# Altium footprint library LPON_IC.PcbLib: 50 footprints (part 2 of 4)
Each footprint in its own frame and in the unit in brackets; x right, y up, seen from the top. Pads: shape width x height; smd on the part's side, far side on the other; paste and mask are expansions set on the pad; w line width, h text height; cw(c..) or ccw(c..) is an arc to the next point about the centre after c.
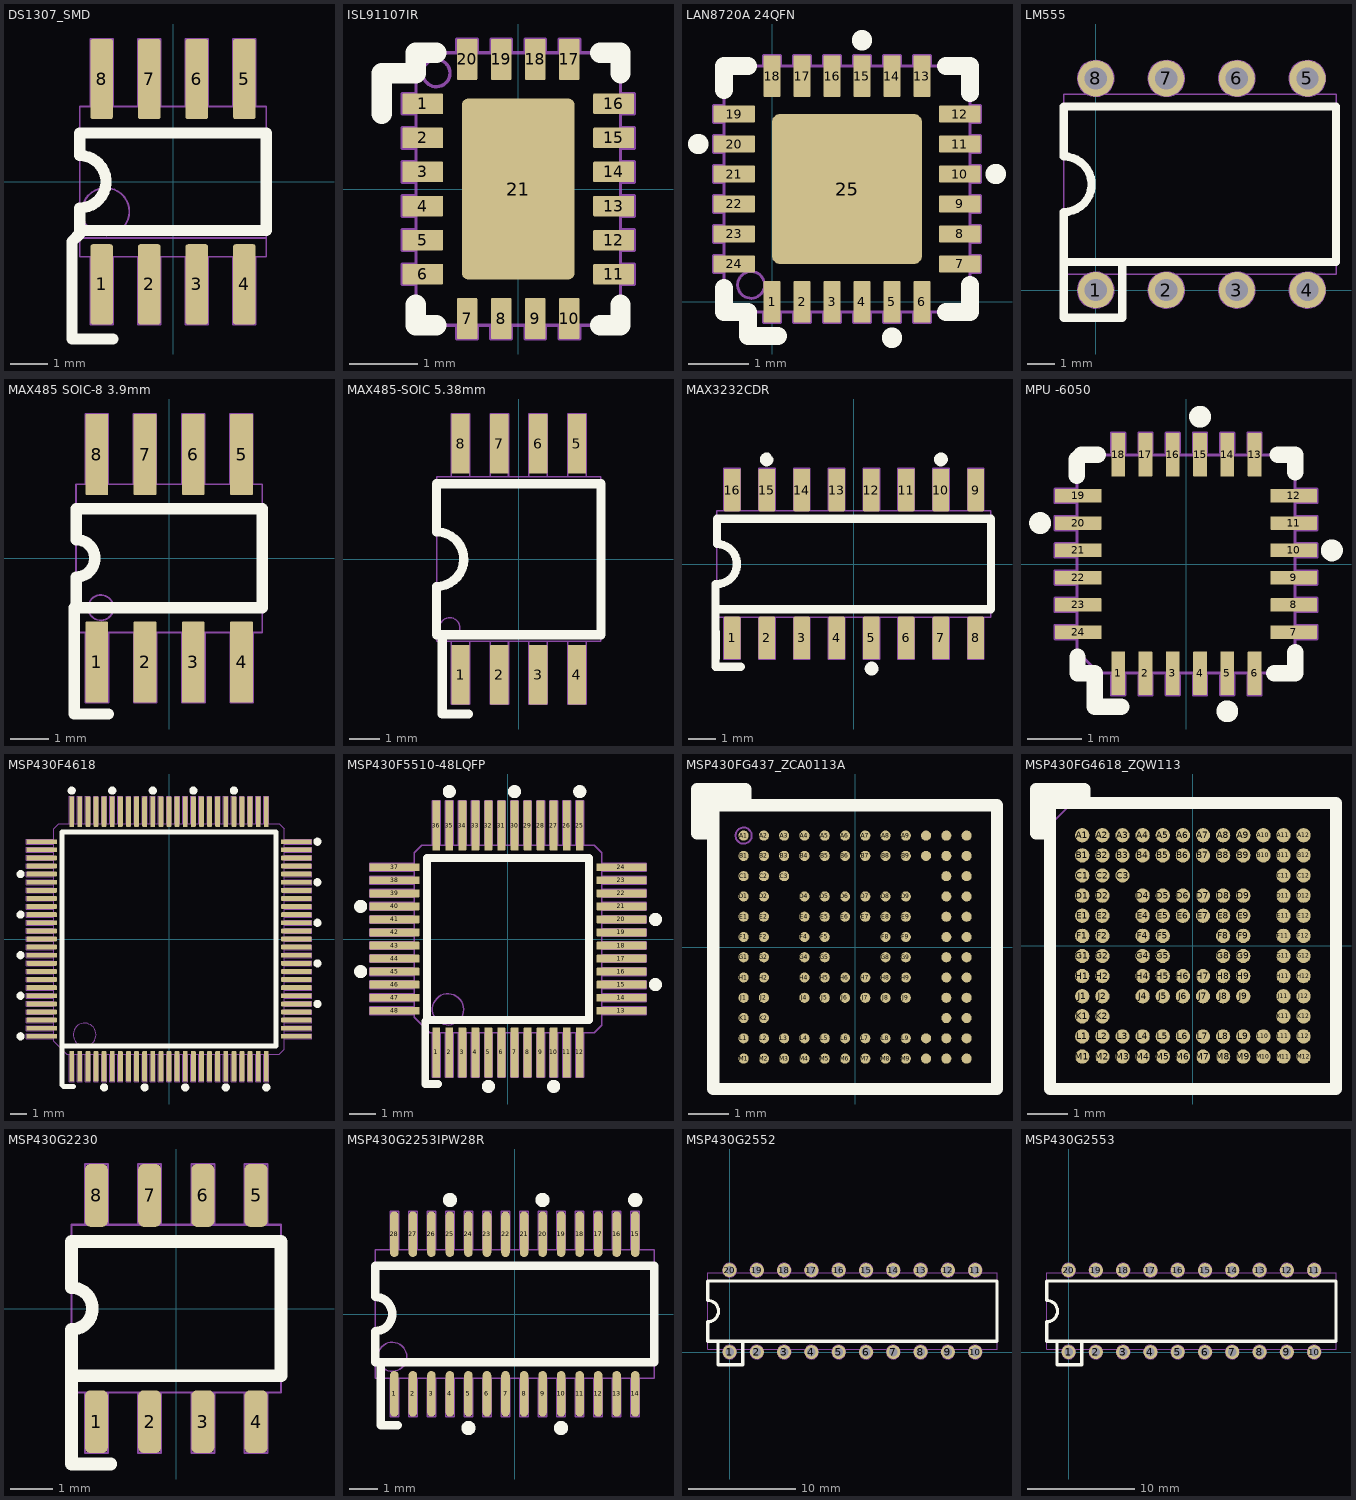
[diagram p1: the footprints below, top view; thin cyan lines are the x and y axes]

## DS1307_SMD [mm] "SOIC8, 8 PIN, Pin to pin 1.27MM"
height 1.75
pads (8):
  rrect20% 0.6x2.14 smd mask+0.1: 1(-1.905,-2.74) 2(-0.635,-2.74) 3(0.635,-2.74) 4(1.905,-2.74) 5(1.905,2.74) 6(0.635,2.74) 7(-0.635,2.74) 8(-1.905,2.74)
Top Overlay:
  lines w0.3: -1.6,-4.2 -2.7,-4.2 -2.7,-1.6 -2.49,-1.39 -2.49,-1.3 ; -2.49,-1.3 -2.49,-0.7 ccw(c-2.49,0) -2.49,0.7 -2.49,1.3 2.49,1.3 2.49,-1.3 -2.49,-1.3
ASSY-C:
  circle w0.05: c-1.8,-0.8 r0.632
  lines w0.05: -2.49,-1.5 2.49,-1.5 ; -2.49,-2.005 -2.49,2.005 2.49,2.005 2.49,-2.005 -2.49,-2.005 ; -2.205,-3.81 -1.605,-3.81 -1.605,-2.005 -2.205,-2.005 -2.205,-3.81 ; -2.205,2.005 -2.205,3.81 -1.605,3.81 -1.605,2.005 -2.205,2.005 ; -0.935,-3.81 -0.935,-2.005 -0.335,-2.005 -0.335,-3.81 -0.935,-3.81 ; -0.935,2.005 -0.935,3.81 -0.335,3.81 -0.335,2.005 -0.935,2.005 ; 0.335,-3.81 0.335,-2.005 0.935,-2.005 0.935,-3.81 0.335,-3.81 ; 0.335,2.005 0.335,3.81 0.935,3.81 0.935,2.005 0.335,2.005 ; 1.605,-3.81 1.605,-2.005 2.205,-2.005 2.205,-3.81 1.605,-3.81 ; 1.605,2.005 1.605,3.81 2.205,3.81 2.205,2.005 1.605,2.005
  text "4" at 1.7,-1.3 h0.8
  text "5" at 1.7,0.9 h0.8
  text "8" at -2.2,0.9 h0.8
3D body "User Library-SOIC127P610X343-8N.STEP": height 3.48, standoff 0, extent -2.92,-3 2.92,3

## ISL91107IR [mm] "20LD TQFN, a highly-integrated buck-boost switching  regulator"
height 0.8
pads (21):
  rrect10% 0.6x0.3 smd mask+0.05: 1(-1.4,1.25) 2(-1.4,0.75) 3(-1.4,0.25) 4(-1.4,-0.25) 5(-1.4,-0.75) 6(-1.4,-1.25) 11(1.4,-1.25) 12(1.4,-0.75) 13(1.4,-0.25) 14(1.4,0.25) 15(1.4,0.75) 16(1.4,1.25)
  rrect10% 0.3x0.6 smd mask+0.05: 7(-0.75,-1.9) 8(-0.25,-1.9) 9(0.25,-1.9) 10(0.75,-1.9) 17(0.75,1.9) 18(0.25,1.9) 19(-0.25,1.9) 20(-0.75,1.9)
  rrect10% 1.65x2.65 smd mask+0: 21(0,0)
Top Overlay:
  lines w0.3: -2,1.1 -2,1.7 -1.5,1.7 -1.5,2 -1.2,2 ; -1.5,-1.7 -1.5,-2 -1.2,-2 ; 1.2,-2 1.5,-2 1.5,-1.7 ; 1.2,2 1.5,2 1.5,1.7
ASSY-C:
  circle w0.05: c-1.2,1.7 r0.2
  lines w0.05: -1.5,-1.4 -1.7,-1.4 -1.7,-1.1 -1.5,-1.1 ; -1.5,-0.9 -1.7,-0.9 -1.7,-0.6 -1.5,-0.6 ; -1.5,-0.4 -1.7,-0.4 -1.7,-0.1 -1.5,-0.1 ; -1.5,0.1 -1.7,0.1 -1.7,0.4 -1.5,0.4 ; -1.5,0.6 -1.7,0.6 -1.7,0.9 -1.5,0.9 ; -1.5,1.1 -1.7,1.1 -1.7,1.4 -1.5,1.4 ; -0.9,-2 -0.9,-2.2 -0.6,-2.2 -0.6,-2 ; -0.9,2 -0.9,2.2 -0.6,2.2 -0.6,2 ; -0.4,-2 -0.4,-2.2 -0.1,-2.2 -0.1,-2 ; -0.4,2 -0.4,2.2 -0.1,2.2 -0.1,2 ; 0.1,-2 0.1,-2.2 0.4,-2.2 0.4,-2 ; 0.1,2 0.1,2.2 0.4,2.2 0.4,2 ; 0.6,-2 0.6,-2.2 0.9,-2.2 0.9,-2 ; 0.6,2 0.6,2.2 0.9,2.2 0.9,2 ; 1.5,-1.4 1.7,-1.4 1.7,-1.1 1.5,-1.1 ; 1.5,-0.9 1.7,-0.9 1.7,-0.6 1.5,-0.6 ; 1.5,-0.4 1.7,-0.4 1.7,-0.1 1.5,-0.1 ; 1.5,0.1 1.7,0.1 1.7,0.4 1.5,0.4 ; 1.5,0.6 1.7,0.6 1.7,0.9 1.5,0.9 ; 1.5,1.1 1.7,1.1 1.7,1.4 1.5,1.4 ; -1.5,-2 1.5,-2 1.5,2 -1.5,2 -1.5,-2
  text "1" at -1.3,1.1 h0.3
  text "16" at 0.9,1.1 h0.3
  text "17" at 0.5,1.6 h0.3
  text "20" at -0.9,1.6 h0.3
  text "6" at -1.3,-1.4 h0.3
  text "11" at 1.1,-1.4 h0.3
  text "7" at -0.9,-1.9 h0.3
  text "10" at 0.5,-1.9 h0.3
  text "IC?" at 0,0 h0.3

## LAN8720A 24QFN [mm] "IC TXRX ETHERNET 24QFN"
height 1
pads (25):
  rrect10% 0.28x0.69 smd paste+0 mask+0.05: 1(0,0) 2(0.5,0) 3(1,0) 4(1.5,0) 5(2,0) 6(2.5,0) 13(2.5,3.765) 14(2,3.765) 15(1.5,3.765) 16(1,3.765) 17(0.5,3.765) 18(0,3.765)
  rrect10% 0.69x0.28 smd mask+0.05: 7(3.133,0.633) 8(3.133,1.132) 9(3.133,1.633) 10(3.133,2.133) 11(3.133,2.633) 12(3.133,3.133) 19(-0.633,3.133) 20(-0.633,2.633) 21(-0.633,2.133) 22(-0.633,1.633) 23(-0.633,1.132) 24(-0.633,0.633)
  rrect10% 2.5x2.5 smd: 25(1.25,1.882)
Top Layer:
  region: 0.5,3.765
Top Overlay:
  circle w0.3: c-1.232,2.633 r0.02
  circle w0.3: c1.5,4.365 r0.02
  circle w0.3: c3.732,2.133 r0.02
  circle w0.3: c2,-0.6 r0.02
  lines w0.3: -0.8,0.232 -0.8,-0.168 -0.4,-0.168 -0.4,-0.568 0.1,-0.568 ; -0.8,3.532 -0.8,3.932 -0.4,3.932 ; 2.9,-0.168 3.3,-0.168 3.3,0.282 ; 2.9,3.932 3.3,3.932 3.3,3.482
Top hinh chieu bang:
  circle w0.05: c-0.35,0.282 r0.224
  lines w0.05: -0.8,0.493 -0.978,0.493 -0.978,0.773 -0.8,0.773 ; -0.8,0.992 -0.978,0.992 -0.978,1.272 -0.8,1.272 ; -0.8,1.493 -0.978,1.493 -0.978,1.773 -0.8,1.773 ; -0.8,1.993 -0.978,1.993 -0.978,2.272 -0.8,2.272 ; -0.8,2.493 -0.978,2.493 -0.978,2.773 -0.8,2.773 ; -0.8,2.993 -0.978,2.993 -0.978,3.273 -0.8,3.273 ; -0.14,-0.168 -0.14,-0.345 0.14,-0.345 0.14,-0.168 ; 0.36,-0.168 0.36,-0.345 0.64,-0.345 0.64,-0.168 ; 0.36,3.932 0.36,4.11 0.64,4.11 0.64,3.932 ; 0.86,-0.168 0.86,-0.345 1.14,-0.345 1.14,-0.168 ; 0.86,3.932 0.86,4.11 1.14,4.11 1.14,3.932 ; 1.36,-0.168 1.36,-0.345 1.64,-0.345 1.64,-0.168 ; 1.36,3.932 1.36,4.11 1.64,4.11 1.64,3.932 ; 1.86,-0.168 1.86,-0.345 2.14,-0.345 2.14,-0.168 ; 1.86,3.932 1.86,4.11 2.14,4.11 2.14,3.932 ; 2.36,-0.168 2.36,-0.345 2.64,-0.345 2.64,-0.168 ; 2.36,3.932 2.36,4.11 2.64,4.11 2.64,3.932 ; 3.3,0.493 3.478,0.493 3.478,0.773 3.3,0.773 ; 3.3,0.992 3.478,0.992 3.478,1.272 3.3,1.272 ; 3.3,1.493 3.478,1.493 3.478,1.773 3.3,1.773 ; 3.3,1.993 3.478,1.993 3.478,2.272 3.3,2.272 ; 3.3,2.493 3.478,2.493 3.478,2.773 3.3,2.773 ; 3.3,2.993 3.478,2.993 3.478,3.273 3.3,3.273 ; -0.8,-0.168 -0.8,3.932 3.3,3.932 3.3,-0.168 -0.8,-0.168 ; -0.14,3.932 -0.14,4.11 0.14,4.11 0.14,3.932 -0.14,3.932
  text "24" at -0.126,0.773 h0.5
  text "19" at -0.1,2.4 h0.5
  text "1" at 0.05,0.082 h0.5
  text "6" at 2.25,0.082 h0.5
  text "7" at 3.05,0.682 h0.5
  text "12" at 2.95,2.382 h0.5
  text "13" at 1.86,3.282 h0.5
  text "16" at -0.05,3.273 h0.5
3D body "User Library-QFN24_4x4.STEP": height 0.9, standoff -0.1, extent -0.76,-0.127 3.26,3.893

## LM555 [mm] "DIP 8, 8 PIN, W 7.62, Pin to pin 2.54MM"
height 4.2
pads (8):
  round 1.3 hole 0.8: 1(0,0) 2(2.54,0) 3(5.08,0) 4(7.62,0) 5(7.62,7.62) 6(5.08,7.62) 7(2.54,7.62) 8(0,7.62)
Top Overlay:
  lines w0.3: 0.95,1.01 0.95,-0.99 -1.15,-0.99 -1.15,1.01 ; -1.15,1.01 8.65,1.01 8.65,6.61 -1.15,6.61 -1.15,4.81 cw(c-1.15,3.81) -1.15,2.81 -1.15,1.01
ASSY-C:
  circle w0.05: c0,0 r0.65
  circle w0.05: c2.54,0 r0.65
  circle w0.05: c5.08,0 r0.65
  circle w0.05: c7.62,0 r0.65
  circle w0.05: c7.62,7.62 r0.65
  circle w0.05: c5.08,7.62 r0.65
  circle w0.05: c2.54,7.62 r0.65
  circle w0.05: c0,7.62 r0.65
  lines w0.05: -1.15,2.91 ccw(c-1.15,3.81) -1.15,4.71 ; -1.15,0.57 8.65,0.57 8.65,7.05 -1.15,7.05 -1.15,0.57
  text "8" at -0.35,5.81 h1
  text "5" at 7.25,5.81 h1
  text "4" at 7.25,0.91 h1
  text "1" at -0.25,0.91 h1
3D body "DIP8.STEP": height 4.57, standoff -3.81, extent -1.205,-0.1 8.705,7.72

## MAX485 SOIC-8 3.9mm [mm] "8-Pin SOIC 3.9mm Width"
height 2.16
pads (8):
  rrect10% 0.6x2.135 smd mask+0.1: 1(-1.905,-2.732) 2(-0.635,-2.732) 3(0.635,-2.732) 4(1.905,-2.732) 5(1.905,2.733) 6(0.635,2.733) 7(-0.635,2.733) 8(-1.905,2.733)
Top Overlay:
  lines w0.3: -1.6,-4.1 -2.5,-4.1 -2.5,-1.3 -2.45,-1.3 ; -2.45,-1.3 -2.45,-0.492 ccw(c-2.45,0) -2.45,0.493 -2.45,1.3 2.45,1.3 2.45,-1.3 -2.45,-1.3
Top hinh chieu bang:
  circle w0.05: c-1.8,-1.3 r0.334
  lines w0.05: -2.45,-0.532 ccw(c-2.45,0) -2.45,0.532 ; -2.21,1.95 -2.21,3.8 -1.61,3.8 -1.61,1.95 ; -2.2,-1.95 -2.2,-3.8 -1.6,-3.8 -1.6,-1.95 ; -0.94,1.95 -0.94,3.8 -0.34,3.8 -0.34,1.95 ; -0.93,-1.95 -0.93,-3.8 -0.33,-3.8 -0.33,-1.95 ; 0.33,1.95 0.33,3.8 0.93,3.8 0.93,1.95 ; 0.34,-1.95 0.34,-3.8 0.94,-3.8 0.94,-1.95 ; 1.6,1.95 1.6,3.8 2.2,3.8 2.2,1.95 ; 1.61,-1.95 1.61,-3.8 2.21,-3.8 2.21,-1.95 ; -2.45,-1.95 2.45,-1.95 2.45,1.95 -2.45,1.95 -2.45,-1.95
  text "4" at 1.6,-1.7 h1
  text "5" at 1.62,0.712 h1
  text "8" at -2.24,0.712 h1
3D body "User Library-SOIC-8-1.step": height 1.75, standoff 0, extent -2.45,-3 2.45,3
3D body "User Library-SOIC-8-1 (2).step": height 1.75, standoff 0, extent -2.45,-3 2.45,3

## MAX485-SOIC 5.38mm [mm] "8-Pin SOIC 208 mil 538mm width"
height 2.16
pads (8):
  rrect10% 0.6x1.95 smd mask+0.1: 1(-1.905,-3.775) 2(-0.635,-3.775) 3(0.635,-3.775) 4(1.905,-3.775) 5(1.905,3.775) 6(0.635,3.775) 7(-0.635,3.775) 8(-1.905,3.775)
Top Overlay:
  lines w0.05: -2.42,-5.05 -2.4,-5.03
  lines w0.3: -2.69,-2.47 -2.69,-0.893 ccw(c-2.69,0) -2.645,0.892 ; -2.69,0.892 -2.69,2.47 2.69,2.47 2.69,-2.47 -2.5,-2.47 -2.5,-5.065 -1.64,-5.065
Top hinh chieu bang:
  circle w0.05: c-2.26,-2.25 r0.334
  lines w0.05: -0.935,-2.69 -0.935,-4.75 -0.335,-4.75 -0.335,-2.69 ; -0.935,2.69 -0.935,4.75 -0.335,4.75 -0.335,2.69 ; 0.335,-2.69 0.335,-4.75 0.935,-4.75 0.935,-2.69 ; 0.335,2.69 0.335,4.75 0.935,4.75 0.935,2.69 ; 1.605,-2.69 1.605,-4.75 2.205,-4.75 2.205,-2.69 ; 1.605,2.69 1.605,4.75 2.205,4.75 2.205,2.69 ; -2.205,-4.75 -2.205,-2.69 -2.205,-4.75 ; -2.205,-4.75 -1.605,-4.75 ; -2.205,-4.75 -1.605,-4.75 ; -2.205,4.75 -1.605,4.75 ; -2.205,4.75 -2.205,2.69 -2.205,4.75 ; -2.205,4.75 -1.605,4.75 ; -1.605,-4.75 -1.605,-2.69 -1.605,-4.75 ; -1.605,4.75 -1.605,2.69 -1.605,4.75 ; -2.69,-2.69 2.69,-2.69 2.69,2.69 -2.69,2.69 -2.69,-2.69
  text "8" at -2.04,2.07 h0.4
  text "5" at 1.82,2.07 h0.4
  text "4" at 1.82,-2.51 h0.4
  text "1" at -1.76,-2.51 h0.4
3D body "User Library-SOIC8_(ATTINY12).step": height 2.22, standoff -0.1, extent -2.66,-4.356 2.72,4.036

## MAX3232CDR [mm] "D - R-PDSO-G16  3.9mm width"
height 1.75
pads (16):
  rrect10% 0.6x1.55 smd mask+0.07: 1(-4.445,-2.7) 2(-3.175,-2.7) 3(-1.905,-2.7) 4(-0.635,-2.7) 5(0.635,-2.7) 6(1.905,-2.7) 7(3.175,-2.7) 8(4.445,-2.7) 9(4.445,2.7) 10(3.175,2.7) 11(1.905,2.7) 12(0.635,2.7) 13(-0.635,2.7) 14(-1.905,2.7) 15(-3.175,2.7) 16(-4.445,2.7)
Top Overlay:
  lines w0.3: -5.056,-3.75 -5.045,-3.21 -5.05,-1.65 -5.05,-0.728 ; -5.004,-3.75 -4.785,-3.75 -4.348,-3.75 -4.129,-3.75 ; -5,-1.65 5,-1.65 5,1.65 -5,1.65 -5,0.8 ; -5,-0.728 ccw(c-5,0) -5,0.728 ; -3.159,3.912 ccw(c-3.185,3.816) -3.085,3.816 ; 0.734,-3.775 ccw(c0.643,-3.816) 0.743,-3.816 ; 3.264,3.857 ccw(c3.173,3.816) 3.273,3.816
Top hinh chieu bang:
  lines w0.05: -5,-0.728 ccw(c-5,0) -5,0.728 ; -4.745,-2 -4.745,-3.475 ; -4.745,1.96 -4.745,3.5 ; -4.145,-2 -4.145,-3.475 ; -4.145,1.95 -4.145,3.5 ; -3.475,-1.95 -3.475,-3.475 -2.875,-3.475 -2.875,-1.95 ; -3.475,1.96 -3.475,3.5 -2.875,3.5 -2.875,1.95 ; -2.205,-1.95 -2.205,-3.475 -1.605,-3.475 -1.605,-1.95 ; -2.205,1.96 -2.205,3.5 -1.605,3.5 -1.605,1.97 ; -0.935,-1.95 -0.935,-3.475 -0.335,-3.475 -0.335,-1.95 ; -0.935,1.96 -0.935,3.5 -0.335,3.5 -0.335,1.96 ; 0.335,-1.95 0.335,-3.475 0.935,-3.475 0.935,-1.95 ; 0.335,1.96 0.335,3.5 0.935,3.5 0.935,1.96 ; 1.605,-1.96 1.605,-3.475 2.205,-3.475 2.205,-1.95 ; 1.605,1.96 1.605,3.5 2.205,3.5 2.205,1.96 ; 2.875,-1.96 2.875,-3.475 3.475,-3.475 3.475,-1.95 ; 2.875,1.96 2.875,3.5 3.475,3.5 3.475,1.96 ; 4.145,-1.96 4.145,-3.475 4.745,-3.475 4.745,-1.95 ; 4.145,1.96 4.145,3.5 4.745,3.5 4.745,1.95 ; -4.745,-3.475 -4.145,-3.475 ; -4.745,-3.475 -4.745,-1.95 -4.145,-1.95 -4.145,-3.475 ; -4.745,-3.475 -4.145,-3.475 ; -4.745,3.5 -4.145,3.5 ; -4.745,3.5 -4.145,3.5 ; -5,-1.95 -5,1.95 5,1.95 5,-1.95 -5,-1.95
  text "16" at -4.66,1.01 h0.8
  text "9" at 4.24,0.93 h0.8
  text "8" at 4.24,-1.76 h0.8
  text "1" at -4.66,-1.72 h0.8
3D body "User Library-SOIC-16-2.step": height 1.64, standoff -0.11, extent -5,-2.9 5,3.1

## MPU -6050 [mm] "QFN"
height 0.95
pads (24):
  rrect10% 0.25x0.8 smd mask+0.05: 1(-1.243,-2) 2(-0.743,-2) 3(-0.243,-2) 4(0.257,-2) 5(0.757,-2) 6(1.257,-2) 13(1.257,2) 14(0.757,2) 15(0.257,2) 16(-0.243,2) 17(-0.743,2) 18(-1.243,2)
  rrect10% 0.85x0.25 smd mask+0.05: 7(1.975,-1.25) 8(1.975,-0.75) 9(1.975,-0.25) 10(1.975,0.25) 11(1.975,0.75) 12(1.975,1.25) 19(-1.975,1.25) 20(-1.975,0.75) 21(-1.975,0.25) 22(-1.975,-0.25) 23(-1.975,-0.75) 24(-1.975,-1.25)
Top Overlay:
  circle w0.3: c0.757,-2.7 r0.05
  circle w0.3: c2.675,0.25 r0.05
  circle w0.3: c0.257,2.7 r0.05
  circle w0.3: c-2.675,0.75 r0.05
  lines w0.3: -2,1.62 -2,1.92 -1.92,2 -1.62,2 ; -1.99,-1.7 -1.99,-2 -1.672,-2 -1.672,-2.62 -1.19,-2.62 ; 1.62,-2 2,-2 2,-1.62 ; 1.68,2 2,2 2,1.68
Top hinh chieu bang:
  lines w0.05: -2,-0.875 -2.4,-0.875 -2.4,-0.625 -2,-0.625 ; -2,-0.375 -2.4,-0.375 -2.4,-0.125 -2,-0.125 ; -2,0.125 -2.4,0.125 -2.4,0.375 -2,0.375 ; -2,0.625 -2.4,0.625 -2.4,0.875 -2,0.875 ; -2,1.125 -2.4,1.125 -2.4,1.375 -2,1.375 ; -1.368,2.05 -1.368,2.4 -1.118,2.4 -1.118,2.05 ; -0.868,-2.05 -0.868,-2.4 -0.618,-2.4 -0.618,-2.05 ; -0.868,2.05 -0.868,2.4 -0.618,2.4 -0.618,2.05 ; -0.368,-2.05 -0.368,-2.4 -0.118,-2.4 -0.118,-2.05 ; -0.368,2.05 -0.368,2.4 -0.118,2.4 -0.118,2.05 ; 0.132,-2.05 0.132,-2.4 0.382,-2.4 0.382,-2.05 ; 0.132,2.05 0.132,2.4 0.382,2.4 0.382,2.05 ; 0.632,-2.05 0.632,-2.4 0.882,-2.4 0.882,-2.05 ; 0.632,2.05 0.632,2.4 0.882,2.4 0.882,2.05 ; 1.132,-2.05 1.132,-2.4 1.382,-2.4 1.382,-2.05 ; 2,-1.375 2.4,-1.375 2.4,-1.125 2,-1.125 ; 2,-0.875 2.4,-0.875 2.4,-0.625 2,-0.625 ; 2,-0.375 2.4,-0.375 2.4,-0.125 2,-0.125 ; 2,0.125 2.4,0.125 2.4,0.375 2,0.375 ; 2,0.625 2.4,0.625 2.4,0.875 2,0.875 ; -2.4,-1.375 -2.4,-1.125 ; -2.4,-1.375 -2,-1.375 -2.4,-1.375 ; -2.4,-1.375 -2.4,-1.125 ; -2.4,-1.125 -2,-1.125 -2.4,-1.125 ; -1.368,-2.4 -1.368,-2.05 -1.368,-2.4 ; -1.368,-2.4 -1.118,-2.4 ; -1.368,-2.4 -1.118,-2.4 ; -1.118,-2.4 -1.118,-2.05 -1.118,-2.4 ; 1.132,2.4 1.382,2.4 ; 1.132,2.4 1.132,2.05 1.132,2.4 ; 1.132,2.4 1.382,2.4 ; 1.382,2.4 1.382,2.05 1.382,2.4 ; 2.4,1.125 2.4,1.375 ; 2.4,1.125 2,1.125 2.4,1.125 ; 2.4,1.125 2.4,1.375 ; 2.4,1.375 2,1.375 2.4,1.375 ; -2,-1.6 -2,1.8 -1.8,2 1.84,2 2,1.84 2,-1.8 1.8,-2 -1.6,-2 -2,-1.6
  text "1" at -1.31,-1.79 h0.4
  text "6" at 1.15,-1.79 h0.4
  text "7" at 1.8,-1.2 h0.4
  text "12" at 1.8,0.8 h0.4
  text "13" at 0.8,1.5 h0.4
  text "18" at -1.3,1.5 h0.4
  text "19" at -1.5,0.8 h0.4
  text "24" at -1.4,-1.4 h0.4
3D body "User Library-mpu-6050_qfn-24.step": height 0.85, standoff -0.05, extent -2.03,-2.02 2.01,2.02

## MSP430F4618 [mm] "PZ (S-PQFP-G100) 14.2x14.2mm"
height 1.45
pads (100):
  rrect50% 0.3x1.9 smd mask+0.05: 1(-6,-7.85) 2(-5.5,-7.85) 3(-5,-7.85) 4(-4.5,-7.85) 5(-4,-7.85) 6(-3.5,-7.85) 7(-3,-7.85) 8(-2.5,-7.85) 9(-2,-7.85) 10(-1.5,-7.85) 11(-1,-7.85) 12(-0.5,-7.85) 13(0,-7.85) 14(0.5,-7.85) 15(1,-7.85) 16(1.5,-7.85) 17(2,-7.85) 18(2.5,-7.85) 19(3,-7.85) 20(3.5,-7.85) 21(4,-7.85) 22(4.5,-7.85) 23(5,-7.85) 24(5.5,-7.85) 25(6,-7.85) 51(6,7.85) 52(5.5,7.85) 53(5,7.85) 54(4.5,7.85) 55(4,7.85) 56(3.5,7.85) 57(3,7.85) 58(2.5,7.85) 59(2,7.85) 60(1.5,7.85) 61(1,7.85) 62(0.5,7.85) 63(0,7.85) 64(-0.5,7.85) 65(-1,7.85) 66(-1.5,7.85) 67(-2,7.85) 68(-2.5,7.85) 69(-3,7.85) 70(-3.5,7.85) 71(-4,7.85) 72(-4.5,7.85) 73(-5,7.85) 74(-5.5,7.85) 75(-6,7.85)
  rrect50% 1.9x0.3 smd mask+0.05: 26(7.85,-6) 27(7.85,-5.5) 28(7.85,-5) 29(7.85,-4.5) 30(7.85,-4) 31(7.85,-3.5) 32(7.85,-3) 33(7.85,-2.5) 34(7.85,-2) 35(7.85,-1.5) 36(7.85,-1) 37(7.85,-0.5) 38(7.85,0) 39(7.85,0.5) 40(7.85,1) 41(7.85,1.5) 42(7.85,2) 43(7.85,2.5) 44(7.85,3) 45(7.85,3.5) 46(7.85,4) 47(7.85,4.5) 48(7.85,5) 49(7.85,5.5) 50(7.85,6) 76(-7.85,6) 77(-7.85,5.5) 78(-7.85,5) 79(-7.85,4.5) 80(-7.85,4) 81(-7.85,3.5) 82(-7.85,3) 83(-7.85,2.5) 84(-7.85,2) 85(-7.85,1.5) 86(-7.85,1) 87(-7.85,0.5) 88(-7.85,0) 89(-7.85,-0.5) 90(-7.85,-1) 91(-7.85,-1.5) 92(-7.85,-2) 93(-7.85,-2.5) 94(-7.85,-3) 95(-7.85,-3.5) 96(-7.85,-4) 97(-7.85,-4.5) 98(-7.85,-5) 99(-7.85,-5.5) 100(-7.85,-6)
Top Overlay:
  circle w0.3: c3.5,-9.15 r0.1
  circle w0.3: c1,-9.15 r0.1
  circle w0.3: c-1.5,-9.15 r0.1
  circle w0.3: c-4,-9.15 r0.1
  circle w0.3: c9.15,-4 r0.1
  circle w0.3: c4,9.15 r0.1
  circle w0.3: c-9.15,4 r0.1
  circle w0.3: c9.15,-1.5 r0.1
  circle w0.3: c9.15,1 r0.1
  circle w0.3: c1.5,9.15 r0.1
  circle w0.3: c-1,9.15 r0.1
  circle w0.3: c-3.5,9.15 r0.1
  circle w0.3: c-9.15,1.5 r0.1
  circle w0.3: c-9.15,-1 r0.1
  circle w0.3: c-9.15,-3.5 r0.1
  circle w0.3: c9.15,3.5 r0.1
  circle w0.3: c9.15,6 r0.1
  circle w0.3: c-6,9.15 r0.1
  circle w0.3: c-9.15,-6 r0.1
  circle w0.3: c6,-9.15 r0.1
  lines w0.3: -5.9,-9.1 -6.5,-9.1 -6.6,-9 -6.6,-6.6 ; -6.6,-6.6 6.6,-6.6 6.6,6.6 -6.6,6.6 -6.6,-6.6
ASSY-C:
  drawing of 409 lines, arcs and shapes, not listed
  text "100" at -6.1,-6.3 h0.8
  text "76" at -6.1,4.8 h0.8
  text "75" at -6.1,6.1 h0.8
  text "51" at 5.2,6.2 h0.8
  text "50" at 6.9,4.8 h0.8
  text "26" at 6.8,-6 h0.8
  text "25" at 4.8,-6.9 h0.8
3D body "User Library-IPC QFP-full (3).step": height 1.75, standoff 0, extent -8.014,-8.014 8.014,8.014

## MSP430F5510-48LQFP [mm] "PT (S-PQFP-G48)"
height 1.6
pads (48):
  rrect10% 0.3x1.9 smd mask+0.05: 1(-2.75,-4.35) 2(-2.25,-4.35) 3(-1.75,-4.35) 4(-1.25,-4.35) 5(-0.75,-4.35) 6(-0.25,-4.35) 7(0.25,-4.35) 8(0.75,-4.35) 9(1.25,-4.35) 10(1.75,-4.35) 11(2.25,-4.35) 12(2.75,-4.35) 25(2.75,4.35) 26(2.25,4.35) 27(1.75,4.35) 28(1.25,4.35) 29(0.75,4.35) 30(0.25,4.35) 31(-0.25,4.35) 32(-0.75,4.35) 33(-1.25,4.35) 34(-1.75,4.35) 35(-2.25,4.35) 36(-2.75,4.35)
  rrect10% 1.9x0.3 smd mask+0.05: 13(4.35,-2.75) 14(4.35,-2.25) 15(4.35,-1.75) 16(4.35,-1.25) 17(4.35,-0.75) 18(4.35,-0.25) 19(4.35,0.25) 20(4.35,0.75) 21(4.35,1.25) 22(4.35,1.75) 23(4.35,2.25) 24(4.35,2.75) 37(-4.35,2.75) 38(-4.35,2.25) 39(-4.35,1.75) 40(-4.35,1.25) 41(-4.35,0.75) 42(-4.35,0.25) 43(-4.35,-0.25) 44(-4.35,-0.75) 45(-4.35,-1.25) 46(-4.35,-1.75) 47(-4.35,-2.25) 48(-4.35,-2.75)
Top Overlay:
  circle w0.3: c5.65,-1.75 r0.1
  circle w0.3: c-5.65,-1.25 r0.1
  circle w0.3: c-5.65,1.25 r0.1
  circle w0.3: c-2.25,5.65 r0.1
  circle w0.3: c0.25,5.65 r0.1
  circle w0.3: c2.75,5.65 r0.1
  circle w0.3: c5.65,0.75 r0.1
  circle w0.3: c1.75,-5.65 r0.1
  circle w0.3: c-0.75,-5.65 r0.1
  lines w0.3: -2.68,-5.56 -3.17,-5.56 -3.17,-3.16 -3.11,-3.1 -3.1,-3.1 ; -3.1,-3.1 -3.1,3.1 3.1,3.1 3.1,-3.1 -3.1,-3.1
ASSY-C:
  drawing of 201 lines, arcs and shapes, not listed
  text "48" at -2.7,-2.5 h0.8
  text "37" at -2.6,1.5 h0.8
  text "36" at -2.9,2.6 h0.8
  text "25" at 1.2,2.6 h0.8
  text "24" at 3.4,1.5 h0.8
  text "13" at 3.4,-2.9 h0.8
  text "12" at 1.3,-3.4 h0.8
3D body "PT0048A.stp": height 1.56, standoff 0.06, extent -4.507,-4.508 4.508,4.508

## MSP430FG437_ZCA0113A [mm] "MCU_OPAMP_ZCA_S_PBGA_N113 7.1x7.1x1mm"
height 1
pads (113):
  round 0.25 smd paste-0.102 mask+0.051: A1(-2.75,2.75) A2(-2.25,2.75) A3(-1.75,2.75) A4(-1.25,2.75) A5(-0.75,2.75) A6(-0.25,2.75) A7(0.25,2.75) A8(0.75,2.75) A9(1.25,2.75) A10(1.75,2.75) A11(2.25,2.75) A12(2.75,2.75) B1(-2.75,2.25) B2(-2.25,2.25) B3(-1.75,2.25) B4(-1.25,2.25) B5(-0.75,2.25) B6(-0.25,2.25) B7(0.25,2.25) B8(0.75,2.25) B9(1.25,2.25) B10(1.75,2.25) B11(2.25,2.25) B12(2.75,2.25) C1(-2.75,1.75) C2(-2.25,1.75) C3(-1.75,1.75) C11(2.25,1.75) C12(2.75,1.75) D1(-2.75,1.25) D2(-2.25,1.25) D4(-1.25,1.25) D5(-0.75,1.25) D6(-0.25,1.25) D7(0.25,1.25) D8(0.75,1.25) D9(1.25,1.25) D11(2.25,1.25) D12(2.75,1.25) E1(-2.75,0.75) E2(-2.25,0.75) E4(-1.25,0.75) E5(-0.75,0.75) E6(-0.25,0.75) E7(0.25,0.75) E8(0.75,0.75) E9(1.25,0.75) E11(2.25,0.75) E12(2.75,0.75) F1(-2.75,0.25) F2(-2.25,0.25) F4(-1.25,0.25) F5(-0.75,0.25) F8(0.75,0.25) F9(1.25,0.25) F11(2.25,0.25) F12(2.75,0.25) G1(-2.75,-0.25) G2(-2.25,-0.25) G4(-1.25,-0.25) G5(-0.75,-0.25) G8(0.75,-0.25) G9(1.25,-0.25) G11(2.25,-0.25) G12(2.75,-0.25) H1(-2.75,-0.75) H2(-2.25,-0.75) H4(-1.25,-0.75) H5(-0.75,-0.75) H6(-0.25,-0.75) H7(0.25,-0.75) H8(0.75,-0.75) H9(1.25,-0.75) H11(2.25,-0.75) H12(2.75,-0.75) J1(-2.75,-1.25) J2(-2.25,-1.25) J4(-1.25,-1.25) J5(-0.75,-1.25) J6(-0.25,-1.25) J7(0.25,-1.25) J8(0.75,-1.25) J9(1.25,-1.25) J11(2.25,-1.25) J12(2.75,-1.25) K1(-2.75,-1.75) K2(-2.25,-1.75) K11(2.25,-1.75) K12(2.75,-1.75) L1(-2.75,-2.25) L2(-2.25,-2.25) L3(-1.75,-2.25) L4(-1.25,-2.25) L5(-0.75,-2.25) L6(-0.25,-2.25) L7(0.25,-2.25) L8(0.75,-2.25) L9(1.25,-2.25) L10(1.75,-2.25) L11(2.25,-2.25) L12(2.75,-2.25) M1(-2.75,-2.75) M2(-2.25,-2.75) M3(-1.75,-2.75) M4(-1.25,-2.75) M5(-0.75,-2.75) M6(-0.25,-2.75) M7(0.25,-2.75) M8(0.75,-2.75) M9(1.25,-2.75) M10(1.75,-2.75) M11(2.25,-2.75) M12(2.75,-2.75)
Top Overlay:
  lines w0.3: -3.9,2.8 -3.5,2.8 -3.7,2.8 -3.7,3.7 -2.7,3.7 -2.7,3.5 -2.7,3.9 -3.9,3.9 -3.9,2.8 ; -3.5,-3.5 -3.5,3.5 3.5,3.5 3.5,-3.5 -3.5,-3.5
ASSY-C:
  circle w0.05: c-2.75,2.75 r0.2
  lines w0.05: -3.5,-3.5 -3.5,3.5 3.5,3.5 3.5,-3.5 -3.5,-3.5
  text "A" at 3.1,2.5 h0.5
  text "M" at 3.1,-3 h0.5
  text "12" at 2.2,-3.4 h0.5
  text "1" at -2.8,-3.4 h0.5
  text "M" at -3.4,-3 h0.5
  text "A" at -3.4,2.5 h0.5
  text "1" at -2.8,3 h0.5
  text "12" at 2.2,3 h0.5

## MSP430FG4618_ZQW113 [mm]
height 1
pads (113):
  round 0.356 smd: A1(-2.75,2.75) A2(-2.25,2.75) A3(-1.75,2.75) A4(-1.25,2.75) A5(-0.75,2.75) A6(-0.25,2.75) A7(0.25,2.75) A8(0.75,2.75) A9(1.25,2.75) A10(1.75,2.75) A11(2.25,2.75) A12(2.75,2.75) B1(-2.75,2.25) B2(-2.25,2.25) B3(-1.75,2.25) B4(-1.25,2.25) B5(-0.75,2.25) B6(-0.25,2.25) B7(0.25,2.25) B8(0.75,2.25) B9(1.25,2.25) B10(1.75,2.25) B11(2.25,2.25) B12(2.75,2.25) C1(-2.75,1.75) C2(-2.25,1.75) C3(-1.75,1.75) C11(2.25,1.75) C12(2.75,1.75) D1(-2.75,1.25) D2(-2.25,1.25) D4(-1.25,1.25) D5(-0.75,1.25) D6(-0.25,1.25) D7(0.25,1.25) D8(0.75,1.25) D9(1.25,1.25) D11(2.25,1.25) D12(2.75,1.25) E1(-2.75,0.75) E2(-2.25,0.75) E4(-1.25,0.75) E5(-0.75,0.75) E6(-0.25,0.75) E7(0.25,0.75) E8(0.75,0.75) E9(1.25,0.75) E11(2.25,0.75) E12(2.75,0.75) F1(-2.75,0.25) F2(-2.25,0.25) F4(-1.25,0.25) F5(-0.75,0.25) F8(0.75,0.25) F9(1.25,0.25) F11(2.25,0.25) F12(2.75,0.25) G1(-2.75,-0.25) G2(-2.25,-0.25) G4(-1.25,-0.25) G5(-0.75,-0.25) G8(0.75,-0.25) G9(1.25,-0.25) G11(2.25,-0.25) G12(2.75,-0.25) H1(-2.75,-0.75) H2(-2.25,-0.75) H4(-1.25,-0.75) H5(-0.75,-0.75) H6(-0.25,-0.75) H7(0.25,-0.75) H8(0.75,-0.75) H9(1.25,-0.75) H11(2.25,-0.75) H12(2.75,-0.75) J1(-2.75,-1.25) J2(-2.25,-1.25) J4(-1.25,-1.25) J5(-0.75,-1.25) J6(-0.25,-1.25) J7(0.25,-1.25) J8(0.75,-1.25) J9(1.25,-1.25) J11(2.25,-1.25) J12(2.75,-1.25) K1(-2.75,-1.75) K2(-2.25,-1.75) K11(2.25,-1.75) K12(2.75,-1.75) L1(-2.75,-2.25) L2(-2.25,-2.25) L3(-1.75,-2.25) L4(-1.25,-2.25) L5(-0.75,-2.25) L6(-0.25,-2.25) L7(0.25,-2.25) L8(0.75,-2.25) L9(1.25,-2.25) L10(1.75,-2.25) L11(2.25,-2.25) L12(2.75,-2.25) M1(-2.75,-2.75) M2(-2.25,-2.75) M3(-1.75,-2.75) M4(-1.25,-2.75) M5(-0.75,-2.75) M6(-0.25,-2.75) M7(0.25,-2.75) M8(0.75,-2.75) M9(1.25,-2.75) M10(1.75,-2.75) M11(2.25,-2.75) M12(2.75,-2.75)
Top Overlay:
  lines w0.3: -2.7,3.556 -2.7,3.7 ; -2.7,3.7 -3.7,3.7 -3.7,2.8 -3.556,2.8 -3.9,2.8 -3.9,3.9 -2.7,3.9 -2.7,3.7 ; -3.556,-3.556 3.556,-3.556 3.556,3.556 -3.556,3.556 -3.556,-3.556
ASSY-C:
  lines w0.05: -3.556,3 -3,3.556 ; -3.556,-3.556 3.556,-3.556 3.556,3.556 -3.556,3.556 -3.556,-3.556
  text "U?" at 0,0 h1
  text "A" at -3.4,2.5 h0.5
  text "1" at -2.8,3 h0.5
  text "12" at 2.2,3 h0.5
  text "M" at -3.4,-3 h0.5
  text "1" at -2.8,-3.5 h0.5
  text "12" at 2.2,-3.5 h0.5
  text "M" at 3.1,-3 h0.5
  text "A" at 3.1,2.5 h0.5

## MSP430G2230 [mm] "8 PIN 1.27MM"
height 1.75
pads (8):
  rrect50% 0.55x1.5 smd mask+0.1: 1(-1.905,-2.7) 2(-0.635,-2.7) 3(0.635,-2.7) 4(1.905,-2.7) 5(1.905,2.7) 6(0.635,2.7) 7(-0.635,2.7) 8(-1.905,2.7)
Top Overlay:
  lines w0.3: -1.56,-3.71 -2.5,-3.71 -2.5,-1.6 ; -2.5,-1.6 2.5,-1.6 2.5,1.6 -2.5,1.6 -2.5,0.5 cw(c-2.5,0) -2.5,-0.5 -2.5,-1.6
ASSY-C:
  lines w0.05: -2.5,-0.5 ccw(c-2.5,0) -2.5,0.5 ; -2.5,-2 2.5,-2 2.5,2 -2.5,2 -2.5,-2 ; -2.18,-3.45 -2.18,-2 -1.63,-2 -1.63,-3.45 -2.18,-3.45 ; -2.18,2 -1.63,2 -1.63,3.45 -2.18,3.45 -2.18,2 ; -0.91,-3.45 -0.91,-2 -0.36,-2 -0.36,-3.45 -0.91,-3.45 ; -0.91,2 -0.36,2 -0.36,3.45 -0.91,3.45 -0.91,2 ; 0.36,-3.45 0.36,-2 0.91,-2 0.91,-3.45 0.36,-3.45 ; 0.36,2 0.91,2 0.91,3.45 0.36,3.45 0.36,2 ; 1.63,-3.45 1.63,-2 2.18,-2 2.18,-3.45 1.63,-3.45 ; 1.63,2 2.18,2 2.18,3.45 1.63,3.45 1.63,2
  text "8" at -2.3,0.8 h1
  text "5" at 1.6,0.8 h1
  text "4" at 1.5,-1.7 h1
  text "1" at -2.1,-1.7 h1

## MSP430G2253IPW28R [mm] "TSSOP PW 28  PIN TO PIN 0.65"
height 1.2
pads (28):
  oval 0.3x1.6 smd mask+0.1: 1(-4.225,-2.8) 2(-3.575,-2.8) 3(-2.925,-2.8) 4(-2.275,-2.8) 5(-1.625,-2.8) 6(-0.975,-2.8) 7(-0.325,-2.8) 8(0.325,-2.8) 9(0.975,-2.8) 10(1.625,-2.8) 11(2.275,-2.8) 12(2.925,-2.8) 13(3.575,-2.8) 14(4.225,-2.8) 15(4.225,2.8) 16(3.575,2.8) 17(2.925,2.8) 18(2.275,2.8) 19(1.625,2.8) 20(0.975,2.8) 21(0.325,2.8) 22(-0.325,2.8) 23(-0.975,2.8) 24(-1.625,2.8) 25(-2.275,2.8) 26(-2.925,2.8) 27(-3.575,2.8) 28(-4.225,2.8)
Top Overlay:
  circle w0.3: c-1.625,-4 r0.1
  circle w0.3: c1.625,-4 r0.1
  circle w0.3: c4.225,4 r0.1
  circle w0.3: c0.975,4 r0.1
  circle w0.3: c-2.275,4 r0.1
  lines w0.3: -4.7,-1.7 -4.7,-3.9 -4.1,-3.9 ; -4.9,-1.7 -4.9,-0.6 ccw(c-4.9,0) -4.9,0.6 -4.9,1.7 4.9,1.7 4.9,-1.7 -4.9,-1.7
ASSY-C:
  circle w0.05: c-4.3,-1.5 r0.51
  lines w0.05: -4.9,-0.6 ccw(c-4.9,0) -4.9,0.6 ; -4.9,-2.25 -4.9,2.25 4.9,2.25 4.9,-2.25 -4.9,-2.25 ; -4.375,-3.6 -4.375,-2.25 -4.075,-2.25 -4.075,-3.6 -4.375,-3.6 ; -4.375,2.25 -4.075,2.25 -4.075,3.6 -4.375,3.6 -4.375,2.25 ; -3.725,-3.6 -3.725,-2.25 -3.425,-2.25 -3.425,-3.6 -3.725,-3.6 ; -3.725,2.25 -3.425,2.25 -3.425,3.6 -3.725,3.6 -3.725,2.25 ; -3.075,-3.6 -3.075,-2.25 -2.775,-2.25 -2.775,-3.6 -3.075,-3.6 ; -3.075,2.25 -2.775,2.25 -2.775,3.6 -3.075,3.6 -3.075,2.25 ; -2.425,-3.6 -2.425,-2.25 -2.125,-2.25 -2.125,-3.6 -2.425,-3.6 ; -2.425,2.25 -2.125,2.25 -2.125,3.6 -2.425,3.6 -2.425,2.25 ; -1.775,-3.6 -1.775,-2.25 -1.475,-2.25 -1.475,-3.6 -1.775,-3.6 ; -1.775,2.25 -1.475,2.25 -1.475,3.6 -1.775,3.6 -1.775,2.25 ; -1.125,-3.6 -1.125,-2.25 -0.825,-2.25 -0.825,-3.6 -1.125,-3.6 ; -1.125,2.25 -0.825,2.25 -0.825,3.6 -1.125,3.6 -1.125,2.25 ; -0.475,-3.6 -0.475,-2.25 -0.175,-2.25 -0.175,-3.6 -0.475,-3.6 ; -0.475,2.25 -0.175,2.25 -0.175,3.6 -0.475,3.6 -0.475,2.25 ; 0.175,-3.6 0.175,-2.25 0.475,-2.25 0.475,-3.6 0.175,-3.6 ; 0.175,2.25 0.475,2.25 0.475,3.6 0.175,3.6 0.175,2.25 ; 0.825,-3.6 0.825,-2.25 1.125,-2.25 1.125,-3.6 0.825,-3.6 ; 0.825,2.25 1.125,2.25 1.125,3.6 0.825,3.6 0.825,2.25 ; 1.475,-3.6 1.475,-2.25 1.775,-2.25 1.775,-3.6 1.475,-3.6 ; 1.475,2.25 1.775,2.25 1.775,3.6 1.475,3.6 1.475,2.25 ; 2.125,-3.6 2.125,-2.25 2.425,-2.25 2.425,-3.6 2.125,-3.6 ; 2.125,2.25 2.425,2.25 2.425,3.6 2.125,3.6 2.125,2.25 ; 2.775,-3.6 2.775,-2.25 3.075,-2.25 3.075,-3.6 2.775,-3.6 ; 2.775,2.25 3.075,2.25 3.075,3.6 2.775,3.6 2.775,2.25 ; 3.425,-3.6 3.425,-2.25 3.725,-2.25 3.725,-3.6 3.425,-3.6 ; 3.425,2.25 3.725,2.25 3.725,3.6 3.425,3.6 3.425,2.25 ; 4.075,-3.6 4.075,-2.25 4.375,-2.25 4.375,-3.6 4.075,-3.6 ; 4.075,2.25 4.375,2.25 4.375,3.6 4.075,3.6 4.075,2.25
  text "14" at 3.1,-1.9 h1
  text "15" at 3,0.9 h1
  text "28" at -4.5,0.9 h1
3D body "User Library-PWP (R-PDSO-G28).STEP": height 1.2, standoff 0, extent -4.9,-3.31 4.9,3.31

## MSP430G2552 [mm] "DIP 20, 20 PIN, W 300mil, Pin to pin 100mil"
height 4.06
pads (20):
  round 1.3 hole 0.8: 1(0,0) 2(2.54,0) 3(5.08,0) 4(7.62,0) 5(10.16,0) 6(12.7,0) 7(15.24,0) 8(17.78,0) 9(20.32,0) 10(22.86,0) 11(22.86,7.62) 12(20.32,7.62) 13(17.78,7.62) 14(15.24,7.62) 15(12.7,7.62) 16(10.16,7.62) 17(7.62,7.62) 18(5.08,7.62) 19(2.54,7.62) 20(0,7.62)
Top Overlay:
  lines w0.3: -1.07,1.01 -1.07,-1.19 1.23,-1.19 1.23,1.01 ; -2.03,1.01 -2.03,2.81 ccw(c-2.03,3.81) -2.03,4.81 -2.03,6.61 24.89,6.61 24.89,1.01 -2.03,1.01
ASSY-C:
  circle w0.05: c2.54,0 r0.65
  circle w0.05: c5.08,0 r0.65
  circle w0.05: c7.62,0 r0.65
  circle w0.05: c10.16,0 r0.65
  circle w0.05: c12.7,0 r0.65
  circle w0.05: c15.24,0 r0.65
  circle w0.05: c17.78,0 r0.65
  circle w0.05: c20.32,0 r0.65
  circle w0.05: c22.86,0 r0.65
  circle w0.05: c0,0 r0.65
  circle w0.05: c0,7.62 r0.65
  circle w0.05: c2.54,7.62 r0.65
  circle w0.05: c5.08,7.62 r0.65
  circle w0.05: c7.62,7.62 r0.65
  circle w0.05: c10.16,7.62 r0.65
  circle w0.05: c12.7,7.62 r0.65
  circle w0.05: c15.24,7.62 r0.65
  circle w0.05: c17.78,7.62 r0.65
  circle w0.05: c20.32,7.62 r0.65
  circle w0.05: c22.86,7.62 r0.65
  lines w0.05: -2.03,2.81 ccw(c-2.03,3.81) -2.03,4.81 ; -2.03,0.255 -2.03,7.365 24.89,7.365 24.89,0.255 -2.03,0.255
  text "1" at -0.27,1.31 h1.2
  text "10" at 22.13,1.41 h1.2
  text "11" at 22.13,5.11 h1.2
  text "20" at -0.97,5.11 h1.2
3D body "User Library-20-pin-dip.STEP": height 3.94, standoff -3.3, extent -2.311,-0.457 24.003,8.179

## MSP430G2553 [mm] "DIP 20, 20 PIN, W 300mil, Pin to pin 100mil"
height 4.06
pads (20):
  round 1.3 hole 0.8: 1(0,0) 2(2.54,0) 3(5.08,0) 4(7.62,0) 5(10.16,0) 6(12.7,0) 7(15.24,0) 8(17.78,0) 9(20.32,0) 10(22.86,0) 11(22.86,7.62) 12(20.32,7.62) 13(17.78,7.62) 14(15.24,7.62) 15(12.7,7.62) 16(10.16,7.62) 17(7.62,7.62) 18(5.08,7.62) 19(2.54,7.62) 20(0,7.62)
Top Overlay:
  lines w0.3: -1.07,1.01 -1.07,-1.19 1.23,-1.19 1.23,1.01 ; -2.03,1.01 24.89,1.01 24.89,6.61 -2.03,6.61 -2.03,4.81 cw(c-2.03,3.81) -2.03,2.81 -2.03,1.01
ASSY-C:
  circle w0.05: c22.86,7.62 r0.65
  circle w0.05: c20.32,7.62 r0.65
  circle w0.05: c17.78,7.62 r0.65
  circle w0.05: c15.24,7.62 r0.65
  circle w0.05: c12.7,7.62 r0.65
  circle w0.05: c10.16,7.62 r0.65
  circle w0.05: c7.62,7.62 r0.65
  circle w0.05: c5.08,7.62 r0.65
  circle w0.05: c2.54,7.62 r0.65
  circle w0.05: c0,7.62 r0.65
  circle w0.05: c0,0 r0.65
  circle w0.05: c22.86,0 r0.65
  circle w0.05: c20.32,0 r0.65
  circle w0.05: c17.78,0 r0.65
  circle w0.05: c15.24,0 r0.65
  circle w0.05: c12.7,0 r0.65
  circle w0.05: c10.16,0 r0.65
  circle w0.05: c7.62,0 r0.65
  circle w0.05: c5.08,0 r0.65
  circle w0.05: c2.54,0 r0.65
  lines w0.05: -2.03,2.81 ccw(c-2.03,3.81) -2.03,4.81 ; -2.03,0.255 24.89,0.255 24.89,7.365 -2.03,7.365 -2.03,0.255
  text "20" at -0.97,5.11 h1.2
  text "11" at 22.13,5.11 h1.2
  text "10" at 22.13,1.41 h1.2
  text "1" at -0.27,1.31 h1.2
3D body "User Library-20-pin-dip.STEP": height 3.94, standoff -3.3, extent -2.311,-0.457 24.003,8.179